# Altium schematic symbol library Advantech.SchLib: 1 symbol
Pins are listed as number, name and electrical type; pins without a type are passive.

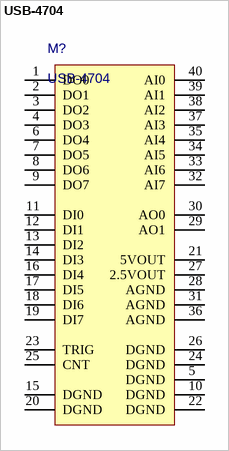
[diagram p0: symbol USB-4704]

## USB-4704
designator M?
Value: USB-4704
pins: 1 DO0, 2 DO1, 3 DO2, 4 DO3, 5 DGND, 6 DO4, 7 DO5, 8 DO6, 9 DO7, 10 DGND, 11 DI0, 12 DI1, 13 DI2, 14 DI3, 15 DGND, 16 DI4, 17 DI5, 18 DI6, 19 DI7, 20 DGND, 21 5VOUT, 22 DGND, 23 TRIG, 24 DGND, 25 CNT, 26 DGND, 27 2.5VOUT, 28 AGND, 29 AO1, 30 AO0, 31 AGND, 32 AI7, 33 AI6, 34 AI5, 35 AI4, 36 AGND, 37 AI3, 38 AI2, 39 AI1, 40 AI0